# Altium footprint library TSD05DYFR.PcbLib: 3 footprints
Each footprint in its own frame and in the unit in brackets; x right, y up, seen from the top. Pads: shape width x height; smd on the part's side, far side on the other; paste and mask are expansions set on the pad; w line width, h text height; cw(c..) or ccw(c..) is an arc to the next point about the centre after c.
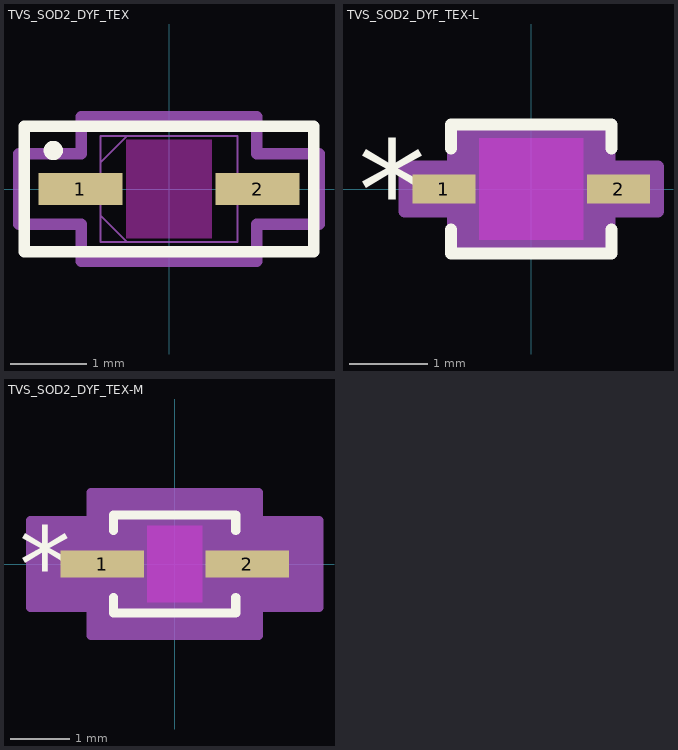
[diagram p0: the footprints below, top view; thin cyan lines are the x and y axes]

## TVS_SOD2_DYF_TEX [mil]
pads (2):
  rect 43.56x16.36 smd paste+0 mask+0: 1(-46,0) 2(46,0)
Top Overlay:
  circle w6: c-60,20 r2
  lines w5.98: -75,-21.28 -75,21.28 ; 75,-32.5 75,32.5
  lines w6: -75,-21.28 -75,-32.5 75,-32.5 ; -75,21.28 -75,32.5 75,32.5
Keep-Out Layer:
  region: -22.22,-25.5 -22.22,25.5 22.22,25.5 22.22,-25.5
Mechanical 13:
  lines w1: -35.5,-13.75 -21.75,-27.5 ; -35.5,13.75 -21.75,27.5 ; -54,-7 -54,7 -35.5,7 -35.5,-7 -54,-7 ; -35.5,-27.5 35.5,-27.5 35.5,27.5 -35.5,27.5 -35.5,-27.5 ; 35.5,-7 35.5,7 54,7 54,-7 35.5,-7
Mechanical 15:
  lines w6: -77.78,-18.18 -77.78,18.18 -45.5,18.18 -45.5,37.5 45.5,37.5 45.5,18.18 77.78,18.18 77.78,-18.18 45.5,-18.18 45.5,-37.5 -45.5,-37.5 -45.5,-18.18 -77.78,-18.18
3D body "TVS_SOD2_DYF_TEX.step": height 39.09, standoff 0, extent -54.02,-27.48 54.02,27.48

## TVS_SOD2_DYF_TEX-L [mil]
pads (2):
  rect 31.75x14.79 smd paste+0 mask+0: 1(-44.03,0) 2(44.03,0)
Top Overlay:
  lines w6: -40.5,-20.49 -40.5,-32.5 40.5,-32.5 40.5,-20.49 ; -40.5,20.49 -40.5,32.5 40.5,32.5 40.5,20.49
  text ".Designator" at -137.5,-25 h50
  text "*" at -87.41,-25 h50
Keep-Out Layer:
  region: -26.16,-25.5 -26.16,25.5 26.16,25.5 26.16,-25.5
Mechanical 13:
  lines w1: -35.5,-13.75 -21.75,-27.5 ; -35.5,13.75 -21.75,27.5 ; -54,-7 -54,7 -35.5,7 -35.5,-7 -54,-7 ; -35.5,-27.5 35.5,-27.5 35.5,27.5 -35.5,27.5 -35.5,-27.5 ; 35.5,-7 35.5,7 54,7 54,-7 35.5,-7
  text "*" at -38,-25 h50
  text ".Designator" at -137.5,-25 h50
Mechanical 15:
  region: -39.5,-11.39 -63.91,-11.39 -63.91,11.39 -39.5,11.39 -39.5,31.5 39.5,31.5 39.5,11.39 63.91,11.39 63.91,-11.39 39.5,-11.39 39.5,-31.5 -39.5,-31.5
  lines w6: -63.91,-11.39 -63.91,11.39 -39.5,11.39 -39.5,31.5 39.5,31.5 39.5,11.39 63.91,11.39 63.91,-11.39 39.5,-11.39 39.5,-31.5 -39.5,-31.5 -39.5,-11.39 -63.91,-11.39
3D body "TVS_SOD2_DYF_TEX.step": height 39.09, standoff 0, extent -54.02,-27.48 54.02,27.48

## TVS_SOD2_DYF_TEX-M [mil]
pads (2):
  rect 55.37x17.94 smd paste+0 mask+0: 1(-47.97,0) 2(47.97,0)
Top Overlay:
  lines w6: -40.5,-22.07 -40.5,-32.5 40.5,-32.5 40.5,-22.07 ; -40.5,22.07 -40.5,32.5 40.5,32.5 40.5,22.07
  text ".Designator" at -137.5,-25 h50
  text "*" at -103.15,-25 h50
Keep-Out Layer:
  region: -18.28,-25.5 -18.28,25.5 18.28,25.5 18.28,-25.5
Mechanical 13:
  lines w1: -35.5,-13.75 -21.75,-27.5 ; -35.5,13.75 -21.75,27.5 ; -54,-7 -54,7 -35.5,7 -35.5,-7 -54,-7 ; -35.5,-27.5 35.5,-27.5 35.5,27.5 -35.5,27.5 -35.5,-27.5 ; 35.5,-7 35.5,7 54,7 54,-7 35.5,-7
  text "*" at -38,-25 h50
  text ".Designator" at -137.5,-25 h50
Mechanical 15:
  region: -55.5,-28.97 -95.65,-28.97 -95.65,28.97 -55.5,28.97 -55.5,47.5 55.5,47.5 55.5,28.97 95.65,28.97 95.65,-28.97 55.5,-28.97 55.5,-47.5 -55.5,-47.5
  lines w6: -95.65,-28.97 -95.65,28.97 -55.5,28.97 -55.5,47.5 55.5,47.5 55.5,28.97 95.65,28.97 95.65,-28.97 55.5,-28.97 55.5,-47.5 -55.5,-47.5 -55.5,-28.97 -95.65,-28.97
3D body "TVS_SOD2_DYF_TEX.step": height 39.09, standoff 0, extent -54.02,-27.48 54.02,27.48